# Altium schematic symbol library DT3.SchLib: 1 symbol
Pins are listed as number, name and electrical type; pins without a type are passive.

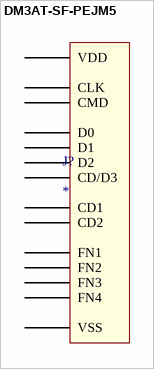
[diagram p0: symbol DM3AT-SF-PEJM5]

## DM3AT-SF-PEJM5
designator J?
Hirose SD Card Connector DM3AT-SF-PEJM5
footprint DM3AT-SF-PEJM5 (Hirose SD Card Connector DM3AT-SF-PEJM5)
pins: 1 D2, 2 CD/D3, 3 CMD, 4 VDD, 5 CLK, 6 VSS, 7 D0, 8 D1, CD1, CD2, FN1, FN2, FN3, FN4